# Altium footprint library Ceramic Capacitor.PcbLib: 17 footprints (part 2 of 2)
Each footprint in its own frame and in the unit in brackets; x right, y up, seen from the top. Pads: shape width x height; smd on the part's side, far side on the other; paste and mask are expansions set on the pad; w line width, h text height; cw(c..) or ccw(c..) is an arc to the next point about the centre after c.
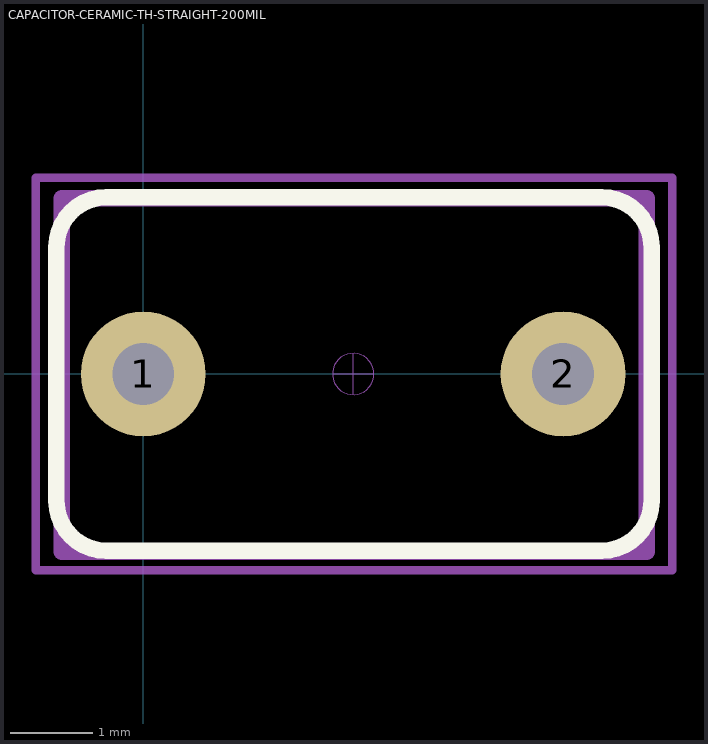
[diagram p1: the footprint, top view; thin cyan lines are the x and y axes]

## CAPACITOR-CERAMIC-TH-STRAIGHT-200MIL [mm] "Tantalum Capacitor TH Series C330 - Pitch 200mils, lead diam. 0.55"
height 8.933
pads (2):
  round 1.51 hole 0.75 mask+0.05: 1(0,0) 2(5.08,0)
Top Overlay:
  lines w0.2: -1.05,-1.538 ccw(c-0.45,-1.538) -0.45,-2.137 5.55,-2.137 ccw(c5.55,-1.538) 6.15,-1.538 6.15,1.538 ccw(c5.55,1.538) 5.55,2.138 -0.45,2.138 ccw(c-0.45,1.538) -1.05,1.538 -1.05,-1.538
Top Component Outline:
  lines w0.2: -0.985,-2.15 -0.985,2.125 6.09,2.125 6.09,-2.15 -0.985,-2.15
  text "'.Comment'" at 0.314,-1.727 h1
Top Courtyard:
  lines w0.1: -1.3,-2.375 6.4,-2.375 6.4,2.375 -1.3,2.375 -1.3,-2.375
Top Component Center:
  circle w0.012: c2.54,0 r0.25
  lines w0.012: 2.29,0 2.54,0 ; 2.54,-0.25 2.54,0 ; 2.54,0.25 2.54,0 ; 2.79,0 2.54,0
Top Designator:
  text "'.Designator'" at 0.098,-0.224 h1
Top Assembly:
  lines w0.2: -0.985,-2.15 -0.985,2.125 6.09,2.125 6.09,-2.15 -0.985,-2.15
  text "'.Designator'" at 0.098,-0.224 h1
3D body "CAPACITOR-TH-C330.step": height 8.93, standoff -18.21, extent -1.015,-2.05 6.095,2.025